# EAGLE library part 0TG-LIB-V01.5_DISP_1.54_LCMTF15423A-C_LCD+CAPTCH_ASSEMBLY (library TG-Watch02B-rev04)
FFC/FPC CONNECTOR, RECEPTACLE 12POS 1ROW
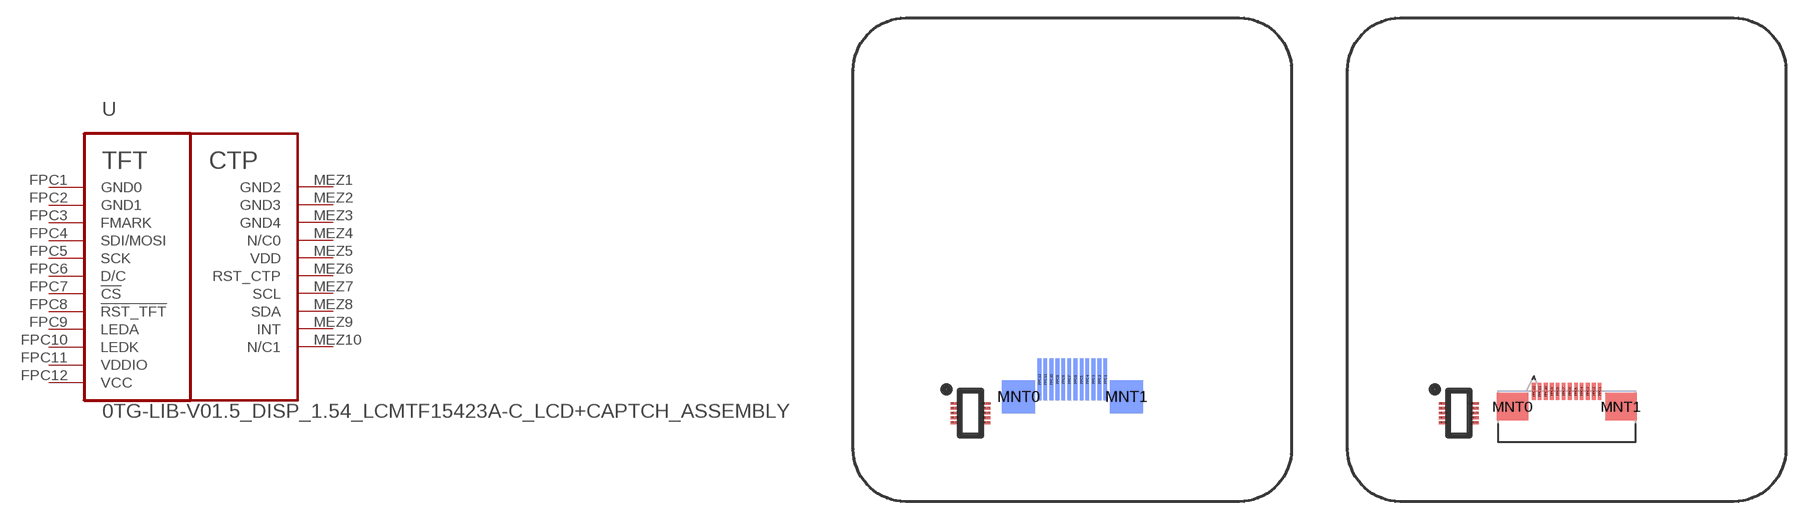
[diagram p4: symbol with the pads of 0TG-LIB-V01.5_TF-LCM15423A-C_DUALSIDE; footprints 0TG-LIB-V01.5_TF-LCM15423A-C_DUALSIDE, 0TG-LIB-V01.5_TF-LCM15423A-C]

Designator prefix U

## 0TG-LIB-V01.5_DISP_1.54_LCMTF15423A-C_LCD+CAPTCH_ASSEMBLY_DUALSIDE  [0TG-LIB-V01.5_TF-LCM15423A-C_DUALSIDE]
FPC1  GND0  pas
FPC2  GND1  pas
FPC3  FMARK  pas
FPC4  SDI/MOSI  pas
FPC5  SCK  pas
FPC6  D/C  pas
FPC7  !CS  pas
FPC8  !RST_TFT  pas
FPC9  LEDA  pas
FPC10  LEDK  pas
FPC11  VDDIO  pas
FPC12  VCC  pas
MEZ1  GND2
MEZ2  GND3
MEZ3  GND4
MEZ4  N/C0
MEZ5  VDD
MEZ6  RST_CTP
MEZ7  SCL
MEZ8  SDA
MEZ9  INT
MEZ10  N/C1

## 0TG-LIB-V01.5_DISP_1.54_LCMTF15423A-C_LCD+CAPTCH_ASSEMBLY_SINGLESIDE_STRETCH (AVAILABILITY: Unavailable; DESCRIPTION: 12 Position FFC, FPC Connector Contacts, Top 0.020 _0.50mm_ Surface Mount, Right Angle; MF: Amphenol ICC; MP: SFV12R-2STE1LF; PACKAGE: None; PRICE: None)  [0TG-LIB-V01.5_TF-LCM15423A-C]
Pads as for 0TG-LIB-V01.5_TF-LCM15423A-C_DUALSIDE

## Footprint 0TG-LIB-V01.5_TF-LCM15423A-C_DUALSIDE (pad centres in mm)
smd 0.305 x 3.5 bottom: FPC1 2.743,10.317; FPC2 2.261,10.317; FPC3 1.753,10.317; FPC4 1.245,10.317; FPC5 0.762,10.317; FPC6 0.254,10.317; FPC7 -0.254,10.317; FPC8 -0.762,10.317; FPC9 -1.245,10.317; FPC10 -1.753,10.317; FPC11 -2.261,10.317; FPC12 -2.743,10.317
smd 0.63 x 0.23: MEZ1 -9.835,8.3; MEZ2 -9.835,7.9; MEZ3 -9.835,7.5; MEZ4 -9.835,7.1; MEZ5 -9.835,6.7; MEZ6 -7.165,6.7; MEZ7 -7.165,7.1; MEZ8 -7.165,7.5; MEZ9 -7.165,7.9; MEZ10 -7.165,8.3
smd 2.75 x 2.75 bottom: MNT0 -4.5,8.85; MNT1 4.5,8.85

## Footprint 0TG-LIB-V01.5_TF-LCM15423A-C (pad centres in mm)
smd 0.305 x 1.397: FPC1 2.743,9.317; FPC2 2.261,9.317; FPC3 1.753,9.317; FPC4 1.245,9.317; FPC5 0.762,9.317; FPC6 0.254,9.317; FPC7 -0.254,9.317; FPC8 -0.762,9.317; FPC9 -1.245,9.317; FPC10 -1.753,9.317; FPC11 -2.261,9.317; FPC12 -2.743,9.317
smd 0.63 x 0.23: MEZ1 -10.335,8.3; MEZ2 -10.335,7.9; MEZ3 -10.335,7.5; MEZ4 -10.335,7.1; MEZ5 -10.335,6.7; MEZ6 -7.665,6.7; MEZ7 -7.665,7.1; MEZ8 -7.665,7.5; MEZ9 -7.665,7.9; MEZ10 -7.665,8.3
smd 2.642 x 2.311: MNT0 -4.521,8.047; MNT1 4.521,8.047